# Altium integrated library Molex FFC - FPC Connectors (SMT).IntLib: 638 symbols (part 18 of 20)
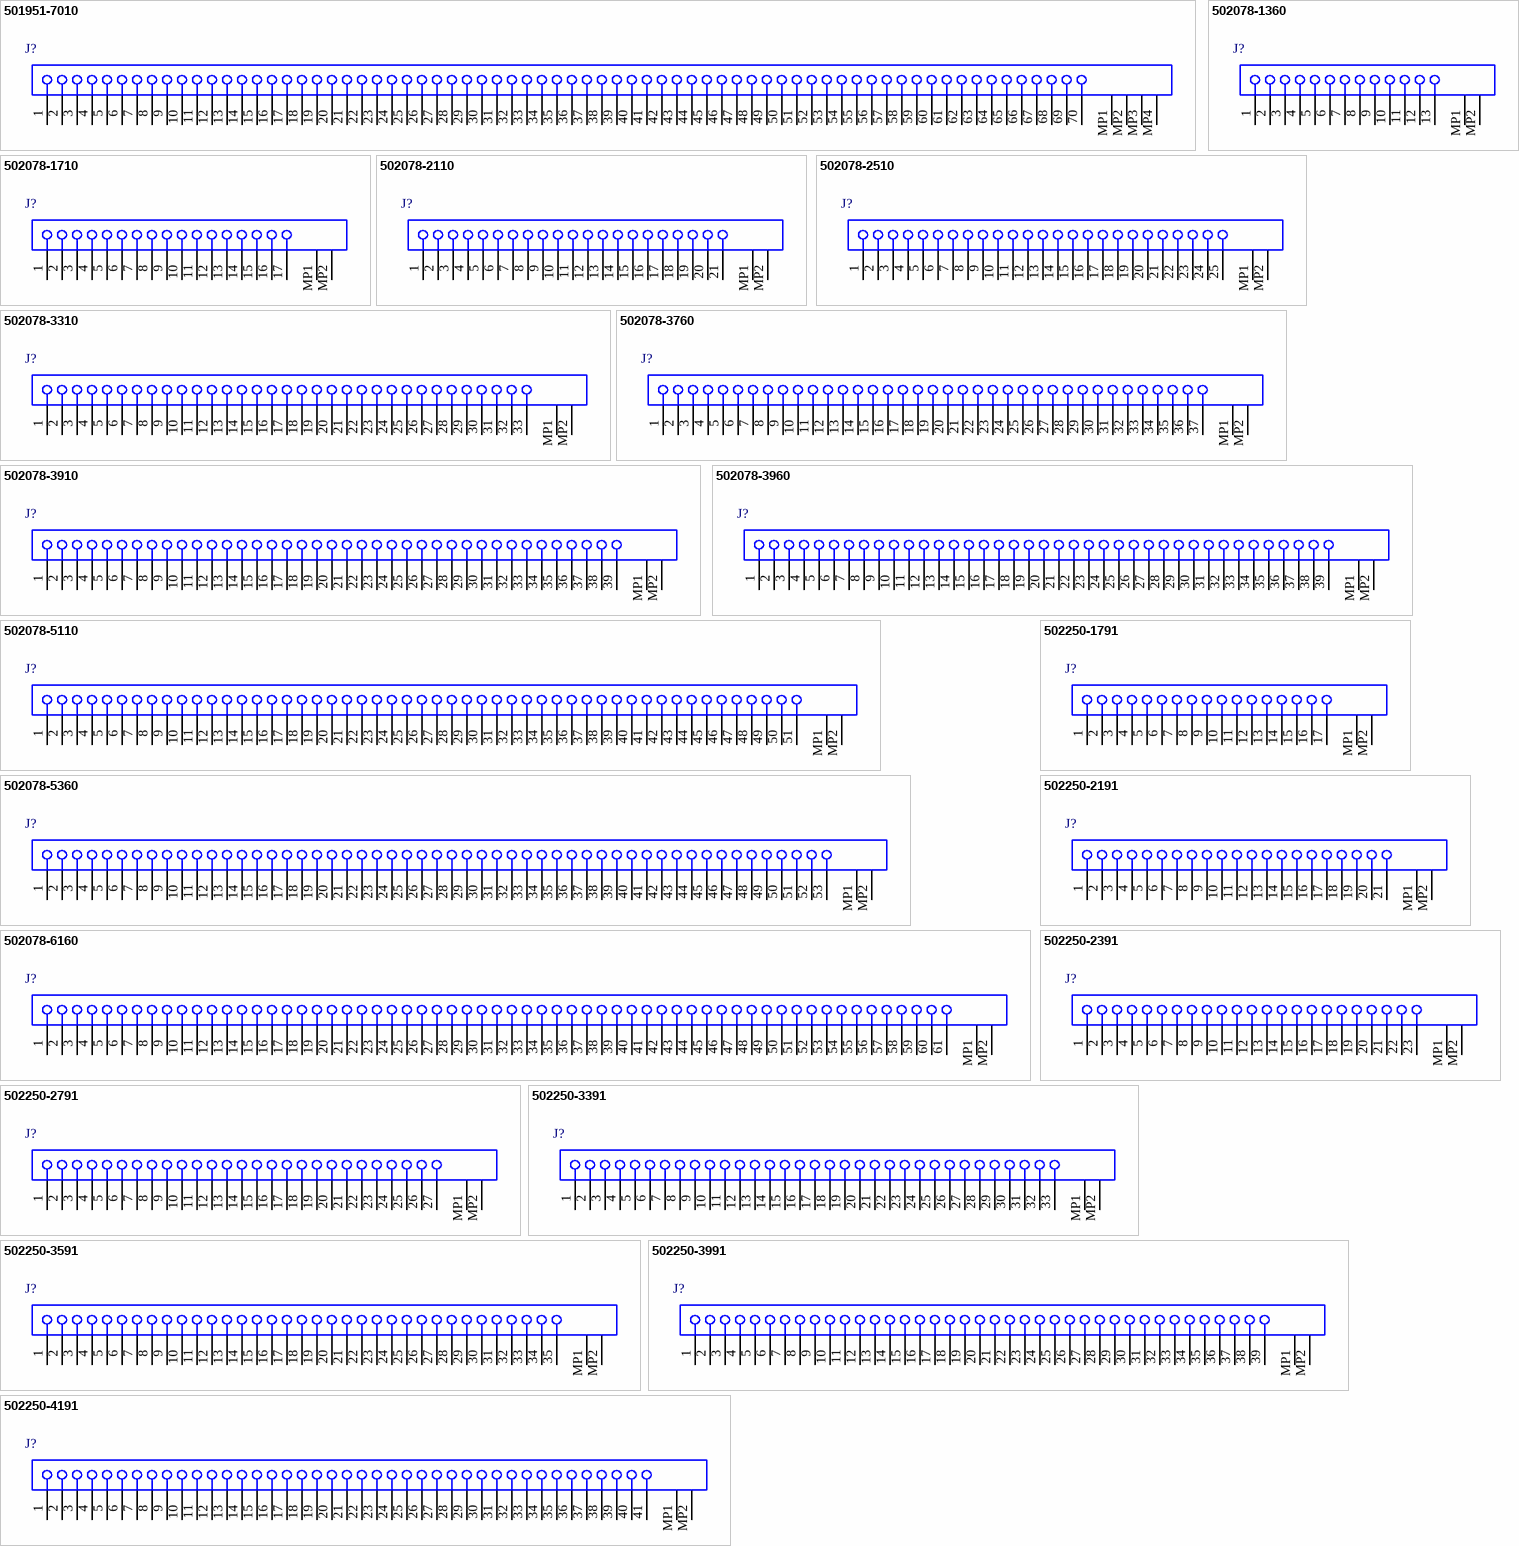
[diagram p38: symbols 501951-7010 to 502250-4191]

## 502078-3960
designator J?
0.25 mm Pitch Easy-On(TM) Type FPC Connector, 1.0 mm Mated Height, Right Angle, SMT, Bottom Contact, 39 Circuits, -20 to 85 degC, ELV and RoHS Compliant, Tape and Reel; Manufacturer: Molex; PartNumber: 502078-3960; Circuits (Loaded): 39; Current (Max per Contact): 0.2A; Durability (mating cycles max): 10; Entry Angle: 90degrees Angle; Mated Height: 1.00mm; Material - Metal: Copper Alloy; Material - Plating Mating: Gold; PCB Locator: No; PCB Retention: Yes; Pitch - Mating Interface: 0.25mm; Voltage (Max): 50V; PackageVersion: Rev. D, 06/2013; PackageReference: 502078-3960; PackageDescription: 39-Lead FPC Connector, Pitch 0.25 mm; Contact Position: Bottom; Material - Plating Termination: Gold; Number of Rows: 1; Orientation: Right Angle; Packing: Tape and Reel; Polarized to PCB: Yes; RoHS: TRUE; Stackable: No; Mounting Technology: Surface Mount; ComponentLink1Description: Manufacturer URL; ComponentLink1URL: http://www.molex.com/molex/index.jsp; ComponentLink2Description: Datasheet; ComponentLink2URL: http://www.molex.com/webdocs/datasheets/pdf/en-us/5020783960_FFC_FPC_CONNECTORS.pdf; ComponentLink3Description: Package Specification; ComponentLink3URL: http://www.molex.com/pdm_docs/sd/5020783960_sd.pdf
footprint MOLX-502078-3960 (FPC Connector, 39-Leads, Right Angle, Pitch 0.25 mm, Mated Height 1.0 mm, SMT)
pins: 1, 2, 3, 4, 5, 6, 7, 8, 9, 10, 11, 12, 13, 14, 15, 16, 17, 18, 19, 20, 21, 22, 23, 24, 25, 26, 27, 28, 29, 30, 31, 32, 33, 34, 35, 36, 37, 38, 39, MP1, MP2

## 502078-5110
designator J?
0.25 mm Pitch Easy-On(TM) Type FPC Connector, 1.0 mm Mated Height, Right Angle, SMT, Bottom Contact, 51 Circuits, -20 to 85 degC, ELV and RoHS Compliant, Tape and Reel; Manufacturer: Molex; PartNumber: 502078-5110; Circuits (Loaded): 51; Current (Max per Contact): 0.2A; Durability (mating cycles max): 10; Entry Angle: 90degrees Angle; Mated Height: 1.00mm; Material - Metal: Copper Alloy; Material - Plating Mating: Gold; PCB Locator: No; PCB Retention: Yes; Pitch - Mating Interface: 0.25mm; Voltage (Max): 50V; PackageVersion: Rev. B, 09/2011; PackageReference: 502078-5110; PackageDescription: 51-Lead FPC Connector, Pitch 0.25 mm; Contact Position: Bottom; Material - Plating Termination: Gold; Number of Rows: 1; Orientation: Right Angle; Packing: Tape and Reel; Polarized to PCB: Yes; RoHS: TRUE; Stackable: No; Mounting Technology: Surface Mount; ComponentLink1Description: Manufacturer URL; ComponentLink1URL: http://www.molex.com/molex/index.jsp; ComponentLink2Description: Datasheet; ComponentLink2URL: http://www.molex.com/webdocs/datasheets/pdf/en-us/5020785110_FFC_FPC_CONNECTORS.pdf; ComponentLink3Description: Package Specification; ComponentLink3URL: http://www.molex.com/pdm_docs/sd/5020785110_sd.pdf
footprint MOLX-502078-5110 (FPC Connector, 51-Leads, Right Angle, Pitch 0.25 mm, Mated Height 1.0 mm, SMT)
pins: 1, 2, 3, 4, 5, 6, 7, 8, 9, 10, 11, 12, 13, 14, 15, 16, 17, 18, 19, 20, 21, 22, 23, 24, 25, 26, 27, 28, 29, 30, 31, 32, 33, 34, 35, 36, 37, 38, 39, 40, 41, 42, 43, 44, 45, 46, 47, 48, 49, 50, 51, MP1, MP2

## 502078-5360
designator J?
0.25 mm Pitch Easy-On(TM) Type FPC Connector, 1.0 mm Mated Height, Right Angle, SMT, Bottom Contact, 53 Circuits, -20 to 85 degC, ELV and RoHS Compliant, Tape and Reel; Manufacturer: Molex; PartNumber: 502078-5360; Circuits (Loaded): 53; Current (Max per Contact): 0.2A; Durability (mating cycles max): 10; Entry Angle: 90degrees Angle; Mated Height: 1.00mm; Material - Metal: Copper Alloy; Material - Plating Mating: Gold; PCB Locator: No; PCB Retention: Yes; Pitch - Mating Interface: 0.25mm; Voltage (Max): 50V; PackageVersion: Rev. D, 06/2013; PackageReference: 502078-5360; PackageDescription: 53-Lead FPC Connector, Pitch 0.25 mm; Contact Position: Bottom; Material - Plating Termination: Gold; Number of Rows: 1; Orientation: Right Angle; Packing: Tape and Reel; Polarized to PCB: Yes; RoHS: TRUE; Stackable: No; Mounting Technology: Surface Mount; ComponentLink1Description: Manufacturer URL; ComponentLink1URL: http://www.molex.com/molex/index.jsp; ComponentLink2Description: Datasheet; ComponentLink2URL: http://www.molex.com/webdocs/datasheets/pdf/en-us/5020785360_FFC_FPC_CONNECTORS.pdf; ComponentLink3Description: Package Specification; ComponentLink3URL: http://www.molex.com/pdm_docs/sd/5020785360_sd.pdf
footprint MOLX-502078-5360 (FPC Connector, 53-Leads, Right Angle, Pitch 0.25 mm, Mated Height 1.0 mm, SMT)
pins: 1, 2, 3, 4, 5, 6, 7, 8, 9, 10, 11, 12, 13, 14, 15, 16, 17, 18, 19, 20, 21, 22, 23, 24, 25, 26, 27, 28, 29, 30, 31, 32, 33, 34, 35, 36, 37, 38, 39, 40, 41, 42, 43, 44, 45, 46, 47, 48, 49, 50, 51, 52, 53, MP1, MP2

## 502078-6160
designator J?
0.25 mm Pitch Easy-On(TM) Type FPC Connector, 1.0 mm Mated Height, Right Angle, SMT, Bottom Contact, 61 Circuits, -20 to 85 degC, ELV and RoHS Compliant, Tape and Reel; Manufacturer: Molex; PartNumber: 502078-6160; Circuits (Loaded): 61; Current (Max per Contact): 0.2A; Durability (mating cycles max): 10; Entry Angle: 90degrees Angle; Mated Height: 1.00mm; Material - Metal: Copper Alloy; Material - Plating Mating: Gold; PCB Locator: No; PCB Retention: Yes; Pitch - Mating Interface: 0.25mm; Voltage (Max): 50V; PackageVersion: Rev. D, 06/2013; PackageReference: 502078-6160; PackageDescription: 61-Lead FPC Connector, Pitch 0.25 mm; Contact Position: Bottom; Material - Plating Termination: Gold; Number of Rows: 1; Orientation: Right Angle; Packing: Tape and Reel; Polarized to PCB: Yes; RoHS: TRUE; Stackable: No; Mounting Technology: Surface Mount; ComponentLink1Description: Manufacturer URL; ComponentLink1URL: http://www.molex.com/molex/index.jsp; ComponentLink2Description: Datasheet; ComponentLink2URL: http://www.molex.com/webdocs/datasheets/pdf/en-us/5020786160_FFC_FPC_CONNECTORS.pdf; ComponentLink3Description: Package Specification; ComponentLink3URL: http://www.molex.com/pdm_docs/sd/5020786160_sd.pdf
footprint MOLX-502078-6160 (FPC Connector, 61-Leads, Right Angle, Pitch 0.25 mm, Mated Height 1.0 mm, SMT)
pins: 1, 2, 3, 4, 5, 6, 7, 8, 9, 10, 11, 12, 13, 14, 15, 16, 17, 18, 19, 20, 21, 22, 23, 24, 25, 26, 27, 28, 29, 30, 31, 32, 33, 34, 35, 36, 37, 38, 39, 40, 41, 42, 43, 44, 45, 46, 47, 48, 49, 50, 51, 52, 53, 54, 55, 56, 57, 58, 59, 60, 61, MP1, MP2

## 502250-1791
designator J?
0.3 mm Pitch Easy-On(TM) BackFlip(TM) Type FPC Connector, 0.9 mm Mated Height, Right Angle, SMT, Dual Contact, 17 Circuits, -25 to 85 degC, ELV and RoHS Compliant, Tape and Reel; Manufacturer: Molex; PartNumber: 502250-1791; Circuits (Loaded): 17; Current (Max per Contact): 0.2A; Durability (mating cycles max): 10; Entry Angle: 90degrees Angle; Mated Height: 0.90mm; Material - Metal: Copper-Nickel-Tin; Material - Plating Mating: Gold; PCB Locator: No; PCB Retention: Yes; Pitch - Mating Interface: 0.30mm; Voltage (Max): 50V AC (RMS)/DC; PackageVersion: Rev. D, 12/2008; PackageReference: 502250-1791; PackageDescription: 17-Lead FPC Connector, Pitch 0.3 mm; Contact Position: Dual; Material - Plating Termination: Gold; Number of Rows: 1; Orientation: Right Angle; Packing: Tape and Reel; Polarized to PCB: Yes; RoHS: TRUE; Stackable: No; Mounting Technology: Surface Mount; ComponentLink1Description: Manufacturer URL; ComponentLink1URL: http://www.molex.com/molex/index.jsp; ComponentLink2Description: Datasheet; ComponentLink2URL: http://www.molex.com/webdocs/datasheets/pdf/en-us/5022501791_FFC_FPC_CONNECTORS.pdf; ComponentLink3Description: Package Specification; ComponentLink3URL: http://www.molex.com/pdm_docs/sd/5022501791_sd.pdf
footprint MOLX-502250-1791 (FPC Connector, 17-Leads, Right Angle, Pitch 0.3 mm, Mated Height 0.9 mm, SMT)
pins: 1, 2, 3, 4, 5, 6, 7, 8, 9, 10, 11, 12, 13, 14, 15, 16, 17, MP1, MP2

## 502250-2191
designator J?
0.3 mm Pitch Easy-On(TM) BackFlip(TM) Type FPC Connector, 0.9 mm Mated Height, Right Angle, SMT, Dual Contact, 21 Circuits, -25 to 85 degC, ELV and RoHS Compliant, Tape and Reel; Manufacturer: Molex; PartNumber: 502250-2191; Circuits (Loaded): 21; Current (Max per Contact): 0.2A; Durability (mating cycles max): 10; Entry Angle: 90degrees Angle; Mated Height: 0.90mm; Material - Metal: Copper-Nickel-Tin; Material - Plating Mating: Gold; PCB Locator: No; PCB Retention: Yes; Pitch - Mating Interface: 0.30mm; Voltage (Max): 50V AC (RMS)/DC; PackageVersion: Rev. D, 12/2008; PackageReference: 502250-2191; PackageDescription: 21-Lead FPC Connector, Pitch 0.3 mm; Contact Position: Dual; Material - Plating Termination: Gold; Number of Rows: 1; Orientation: Right Angle; Packing: Tape and Reel; Polarized to PCB: Yes; RoHS: TRUE; Stackable: No; Mounting Technology: Surface Mount; ComponentLink1Description: Manufacturer URL; ComponentLink1URL: http://www.molex.com/molex/index.jsp; ComponentLink2Description: Datasheet; ComponentLink2URL: http://www.molex.com/webdocs/datasheets/pdf/en-us/5022502191_FFC_FPC_CONNECTORS.pdf; ComponentLink3Description: Package Specification; ComponentLink3URL: http://www.molex.com/pdm_docs/sd/5022502191_sd.pdf
footprint MOLX-502250-2191 (FPC Connector, 21-Leads, Right Angle, Pitch 0.3 mm, Mated Height 0.9 mm, SMT)
pins: 1, 2, 3, 4, 5, 6, 7, 8, 9, 10, 11, 12, 13, 14, 15, 16, 17, 18, 19, 20, 21, MP1, MP2

## 502250-2391
designator J?
0.3 mm Pitch Easy-On(TM) BackFlip(TM) Type FPC Connector, 0.9 mm Mated Height, Right Angle, SMT, Dual Contact, 23 Circuits, -25 to 85 degC, ELV and RoHS Compliant, Tape and Reel; Manufacturer: Molex; PartNumber: 502250-2391; Circuits (Loaded): 23; Current (Max per Contact): 0.2A; Durability (mating cycles max): 10; Entry Angle: 90degrees Angle; Mated Height: 0.90mm; Material - Metal: Copper-Nickel-Tin; Material - Plating Mating: Gold; PCB Locator: No; PCB Retention: Yes; Pitch - Mating Interface: 0.30mm; Voltage (Max): 50V AC (RMS)/DC; PackageVersion: Rev. D, 12/2008; PackageReference: 502250-2391; PackageDescription: 23-Lead FPC Connector, Pitch 0.3 mm; Contact Position: Dual; Material - Plating Termination: Gold; Number of Rows: 1; Orientation: Right Angle; Packing: Tape and Reel; Polarized to PCB: Yes; RoHS: TRUE; Stackable: No; Mounting Technology: Surface Mount; ComponentLink1Description: Manufacturer URL; ComponentLink1URL: http://www.molex.com/molex/index.jsp; ComponentLink2Description: Datasheet; ComponentLink2URL: http://www.molex.com/webdocs/datasheets/pdf/en-us/5022502391_FFC_FPC_CONNECTORS.pdf; ComponentLink3Description: Package Specification; ComponentLink3URL: http://www.molex.com/pdm_docs/sd/5022502391_sd.pdf
footprint MOLX-502250-2391 (FPC Connector, 23-Leads, Right Angle, Pitch 0.3 mm, Mated Height 0.9 mm, SMT)
pins: 1, 2, 3, 4, 5, 6, 7, 8, 9, 10, 11, 12, 13, 14, 15, 16, 17, 18, 19, 20, 21, 22, 23, MP1, MP2

## 502250-2791
designator J?
0.3 mm Pitch Easy-On(TM) BackFlip(TM) Type FPC Connector, 0.9 mm Mated Height, Right Angle, SMT, Dual Contact, 27 Circuits, -25 to 85 degC, ELV and RoHS Compliant, Tape and Reel; Manufacturer: Molex; PartNumber: 502250-2791; Circuits (Loaded): 27; Current (Max per Contact): 0.2A; Durability (mating cycles max): 10; Entry Angle: 90degrees Angle; Mated Height: 0.90mm; Material - Metal: Copper-Nickel-Tin; Material - Plating Mating: Gold; PCB Locator: No; PCB Retention: Yes; Pitch - Mating Interface: 0.30mm; Voltage (Max): 50V AC (RMS)/DC; PackageVersion: Rev. D, 12/2008; PackageReference: 502250-2791; PackageDescription: 27-Lead FPC Connector, Pitch 0.3 mm; Contact Position: Dual; Material - Plating Termination: Gold; Number of Rows: 1; Orientation: Right Angle; Packing: Tape and Reel; Polarized to PCB: Yes; RoHS: TRUE; Stackable: No; Mounting Technology: Surface Mount; ComponentLink1Description: Manufacturer URL; ComponentLink1URL: http://www.molex.com/molex/index.jsp; ComponentLink2Description: Datasheet; ComponentLink2URL: http://www.molex.com/webdocs/datasheets/pdf/en-us/5022502791_FFC_FPC_CONNECTORS.pdf; ComponentLink3Description: Package Specification; ComponentLink3URL: http://www.molex.com/pdm_docs/sd/5022502791_sd.pdf
footprint MOLX-502250-2791 (FPC Connector, 27-Leads, Right Angle, Pitch 0.3 mm, Mated Height 0.9 mm, SMT)
pins: 1, 2, 3, 4, 5, 6, 7, 8, 9, 10, 11, 12, 13, 14, 15, 16, 17, 18, 19, 20, 21, 22, 23, 24, 25, 26, 27, MP1, MP2

## 502250-3391
designator J?
0.3 mm Pitch Easy-On(TM) BackFlip(TM) Type FPC Connector, 0.9 mm Mated Height, Right Angle, SMT, Dual Contact, 33 Circuits, -25 to 85 degC, ELV and RoHS Compliant, Tape and Reel; Manufacturer: Molex; PartNumber: 502250-3391; Circuits (Loaded): 33; Current (Max per Contact): 0.2A; Durability (mating cycles max): 10; Entry Angle: 90degrees Angle; Mated Height: 0.90mm; Material - Metal: Copper-Nickel-Tin; Material - Plating Mating: Gold; PCB Locator: No; PCB Retention: Yes; Pitch - Mating Interface: 0.30mm; Voltage (Max): 50V AC (RMS)/DC; PackageVersion: Rev. D, 12/2008; PackageReference: 502250-3391; PackageDescription: 33-Lead FPC Connector, Pitch 0.3 mm; Contact Position: Dual; Material - Plating Termination: Gold; Number of Rows: 1; Orientation: Right Angle; Packing: Tape and Reel; Polarized to PCB: Yes; RoHS: TRUE; Stackable: No; Mounting Technology: Surface Mount; ComponentLink1Description: Manufacturer URL; ComponentLink1URL: http://www.molex.com/molex/index.jsp; ComponentLink2Description: Datasheet; ComponentLink2URL: http://www.molex.com/webdocs/datasheets/pdf/en-us/5022503391_FFC_FPC_CONNECTORS.pdf; ComponentLink3Description: Package Specification; ComponentLink3URL: http://www.molex.com/pdm_docs/sd/5022503391_sd.pdf
footprint MOLX-502250-3391 (FPC Connector, 33-Leads, Right Angle, Pitch 0.3 mm, Mated Height 0.9 mm, SMT)
pins: 1, 2, 3, 4, 5, 6, 7, 8, 9, 10, 11, 12, 13, 14, 15, 16, 17, 18, 19, 20, 21, 22, 23, 24, 25, 26, 27, 28, 29, 30, 31, 32, 33, MP1, MP2

## 502250-3591
designator J?
0.3 mm Pitch Easy-On(TM) BackFlip(TM) Type FPC Connector, 0.9 mm Mated Height, Right Angle, SMT, Dual Contact, 35 Circuits, -25 to 85 degC, ELV and RoHS Compliant, Tape and Reel; Manufacturer: Molex; PartNumber: 502250-3591; Circuits (Loaded): 35; Current (Max per Contact): 0.2A; Durability (mating cycles max): 10; Entry Angle: 90degrees Angle; Mated Height: 0.90mm; Material - Metal: Copper-Nickel-Tin; Material - Plating Mating: Gold; PCB Locator: No; PCB Retention: Yes; Pitch - Mating Interface: 0.30mm; Voltage (Max): 50V AC (RMS)/DC; PackageVersion: Rev. D, 12/2008; PackageReference: 502250-3591; PackageDescription: 35-Lead FPC Connector, Pitch 0.3 mm; Contact Position: Dual; Material - Plating Termination: Gold; Number of Rows: 1; Orientation: Right Angle; Packing: Tape and Reel; Polarized to PCB: Yes; RoHS: TRUE; Stackable: No; Mounting Technology: Surface Mount; ComponentLink1Description: Manufacturer URL; ComponentLink1URL: http://www.molex.com/molex/index.jsp; ComponentLink2Description: Datasheet; ComponentLink2URL: http://www.molex.com/webdocs/datasheets/pdf/en-us/5022503591_FFC_FPC_CONNECTORS.pdf; ComponentLink3Description: Package Specification; ComponentLink3URL: http://www.molex.com/pdm_docs/sd/5022503591_sd.pdf
footprint MOLX-502250-3591 (FPC Connector, 35-Leads, Right Angle, Pitch 0.3 mm, Mated Height 0.9 mm, SMT)
pins: 1, 2, 3, 4, 5, 6, 7, 8, 9, 10, 11, 12, 13, 14, 15, 16, 17, 18, 19, 20, 21, 22, 23, 24, 25, 26, 27, 28, 29, 30, 31, 32, 33, 34, 35, MP1, MP2

## 502250-3991
designator J?
0.3 mm Pitch Easy-On(TM) BackFlip(TM) Type FPC Connector, 0.9 mm Mated Height, Right Angle, SMT, Dual Contact, 39 Circuits, -25 to 85 degC, ELV and RoHS Compliant, Tape and Reel; Manufacturer: Molex; PartNumber: 502250-3991; Circuits (Loaded): 39; Current (Max per Contact): 0.2A; Durability (mating cycles max): 10; Entry Angle: 90degrees Angle; Mated Height: 0.90mm; Material - Metal: Copper-Nickel-Tin; Material - Plating Mating: Gold; PCB Locator: No; PCB Retention: Yes; Pitch - Mating Interface: 0.30mm; Voltage (Max): 50V AC (RMS)/DC; PackageVersion: Rev. D, 12/2008; PackageReference: 502250-3991; PackageDescription: 39-Lead FPC Connector, Pitch 0.3 mm; Contact Position: Dual; Material - Plating Termination: Gold; Number of Rows: 1; Orientation: Right Angle; Packing: Tape and Reel; Polarized to PCB: Yes; RoHS: TRUE; Stackable: No; Mounting Technology: Surface Mount; ComponentLink1Description: Manufacturer URL; ComponentLink1URL: http://www.molex.com/molex/index.jsp; ComponentLink2Description: Datasheet; ComponentLink2URL: http://www.molex.com/webdocs/datasheets/pdf/en-us/5022503991_FFC_FPC_CONNECTORS.pdf; ComponentLink3Description: Package Specification; ComponentLink3URL: http://www.molex.com/pdm_docs/sd/5022503991_sd.pdf
footprint MOLX-502250-3991 (FPC Connector, 39-Leads, Right Angle, Pitch 0.3 mm, Mated Height 0.9 mm, SMT)
pins: 1, 2, 3, 4, 5, 6, 7, 8, 9, 10, 11, 12, 13, 14, 15, 16, 17, 18, 19, 20, 21, 22, 23, 24, 25, 26, 27, 28, 29, 30, 31, 32, 33, 34, 35, 36, 37, 38, 39, MP1, MP2

## 502250-4191
designator J?
0.3 mm Pitch Easy-On(TM) BackFlip(TM) Type FPC Connector, 0.9 mm Mated Height, Right Angle, SMT, Dual Contact, 41 Circuits, -25 to 85 degC, ELV and RoHS Compliant, Tape and Reel; Manufacturer: Molex; PartNumber: 502250-4191; Circuits (Loaded): 41; Current (Max per Contact): 0.2A; Durability (mating cycles max): 10; Entry Angle: 90degrees Angle; Mated Height: 0.90mm; Material - Metal: Copper-Nickel-Tin; Material - Plating Mating: Gold; PCB Locator: No; PCB Retention: Yes; Pitch - Mating Interface: 0.30mm; Voltage (Max): 50V AC (RMS)/DC; PackageVersion: Rev. D, 12/2008; PackageReference: 502250-4191; PackageDescription: 41-Lead FPC Connector, Pitch 0.3 mm; Contact Position: Dual; Material - Plating Termination: Gold; Number of Rows: 1; Orientation: Right Angle; Packing: Tape and Reel; Polarized to PCB: Yes; RoHS: TRUE; Stackable: No; Mounting Technology: Surface Mount; ComponentLink1Description: Manufacturer URL; ComponentLink1URL: http://www.molex.com/molex/index.jsp; ComponentLink2Description: Datasheet; ComponentLink2URL: http://www.molex.com/webdocs/datasheets/pdf/en-us/5022504191_FFC_FPC_CONNECTORS.pdf; ComponentLink3Description: Package Specification; ComponentLink3URL: http://www.molex.com/pdm_docs/sd/5022504191_sd.pdf
footprint MOLX-502250-4191 (FPC Connector, 41-Leads, Right Angle, Pitch 0.3 mm, Mated Height 0.9 mm, SMT)
pins: 1, 2, 3, 4, 5, 6, 7, 8, 9, 10, 11, 12, 13, 14, 15, 16, 17, 18, 19, 20, 21, 22, 23, 24, 25, 26, 27, 28, 29, 30, 31, 32, 33, 34, 35, 36, 37, 38, 39, 40, 41, MP1, MP2

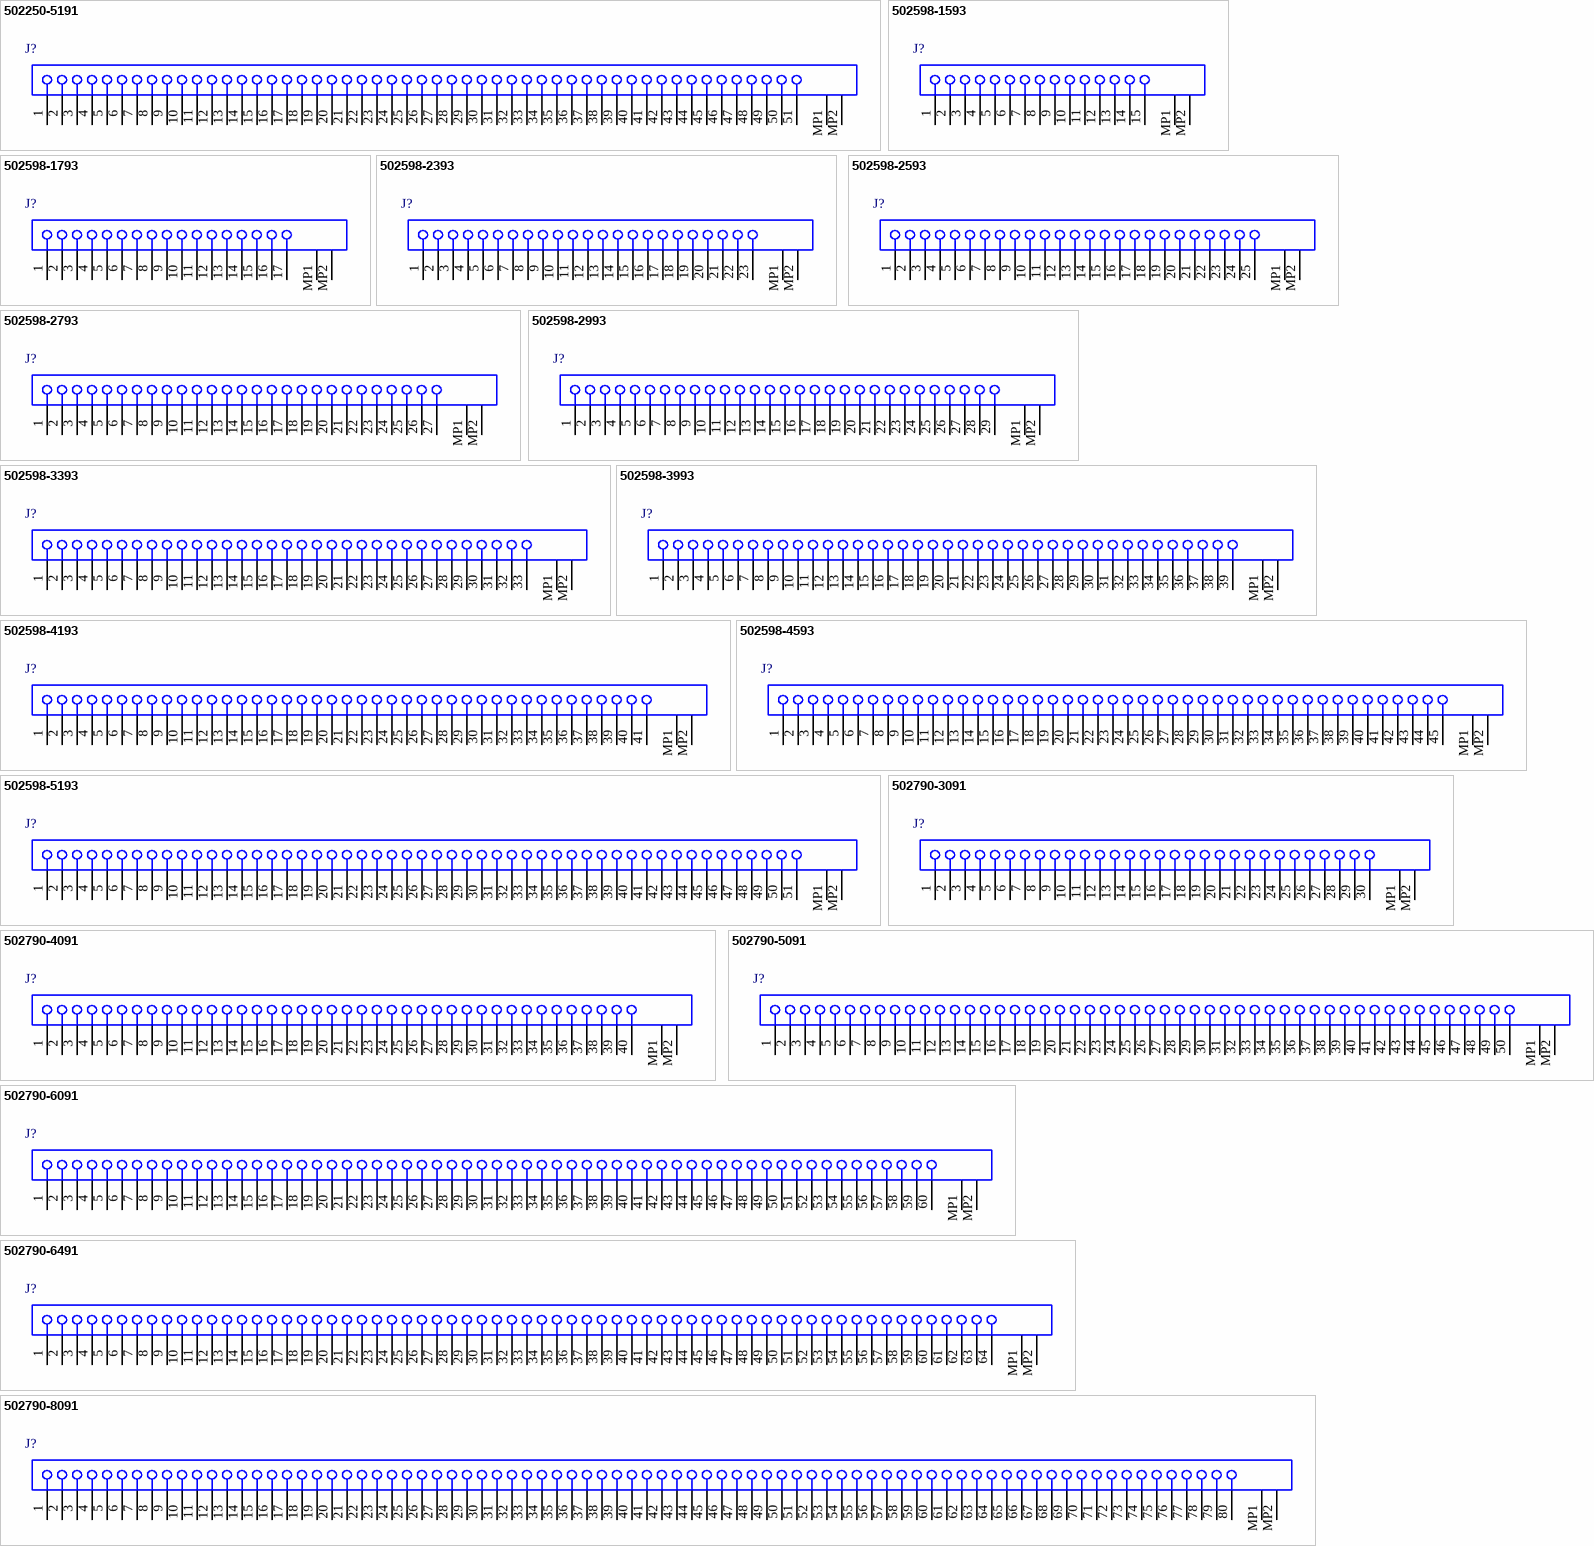
[diagram p19: symbols 502250-5191 to 502790-8091]

## 502250-5191
designator J?
0.3 mm Pitch Easy-On(TM) BackFlip(TM) Type FPC Connector, 0.9 mm Mated Height, Right Angle, SMT, Dual Contact, 51 Circuits, -25 to 85 degC, ELV and RoHS Compliant, Tape and Reel; Manufacturer: Molex; PartNumber: 502250-5191; Circuits (Loaded): 51; Current (Max per Contact): 0.2A; Durability (mating cycles max): 10; Entry Angle: 90degrees Angle; Mated Height: 0.90mm; Material - Metal: Copper-Nickel-Tin; Material - Plating Mating: Gold; PCB Locator: No; PCB Retention: Yes; Pitch - Mating Interface: 0.30mm; Voltage (Max): 50V AC (RMS)/DC; PackageVersion: Rev. D, 12/2008; PackageReference: 502250-5191; PackageDescription: 51-Lead FPC Connector, Pitch 0.3 mm; Contact Position: Dual; Material - Plating Termination: Gold; Number of Rows: 1; Orientation: Right Angle; Packing: Tape and Reel; Polarized to PCB: Yes; RoHS: TRUE; Stackable: No; Mounting Technology: Surface Mount; ComponentLink1Description: Manufacturer URL; ComponentLink1URL: http://www.molex.com/molex/index.jsp; ComponentLink2Description: Datasheet; ComponentLink2URL: http://www.molex.com/webdocs/datasheets/pdf/en-us/5022505191_FFC_FPC_CONNECTORS.pdf; ComponentLink3Description: Package Specification; ComponentLink3URL: http://www.molex.com/pdm_docs/sd/5022505191_sd.pdf
footprint MOLX-502250-5191 (FPC Connector, 51-Leads, Right Angle, Pitch 0.3 mm, Mated Height 0.9 mm, SMT)
pins: 1, 2, 3, 4, 5, 6, 7, 8, 9, 10, 11, 12, 13, 14, 15, 16, 17, 18, 19, 20, 21, 22, 23, 24, 25, 26, 27, 28, 29, 30, 31, 32, 33, 34, 35, 36, 37, 38, 39, 40, 41, 42, 43, 44, 45, 46, 47, 48, 49, 50, 51, MP1, MP2

## 502598-1593
designator J?
0.3 mm Pitch Easy-On(TM) BackFlip(TM) Type FPC Connector, 1.15 mm Mated Height, Right Angle, SMT, Dual Contact, 15 Circuits, -40 to 85 degC, ELV and RoHS Compliant, Tape and Reel; Manufacturer: Molex; PartNumber: 502598-1593; Circuits (Loaded): 15; Current (Max per Contact): 0.2A; Durability (mating cycles max): 10; Entry Angle: 90degrees Angle; Mated Height: 1.15mm; Material - Metal: Copper Alloy, Phosphor Bronze; Material - Plating Mating: Gold; Material - Plating Termination: Gold, Tin; PCB Locator: No; PCB Retention: Yes; Pitch - Mating Interface: 0.30mm; Voltage (Max): 50V AC (RMS)/DC; PackageVersion: Rev. B, 08/2013; PackageReference: 502598-1593; PackageDescription: 15-Lead FPC Connector, Pitch 0.3 mm; Contact Position: Dual; Number of Rows: 1; Orientation: Right Angle; Packing: Tape and Reel; Polarized to PCB: Yes; RoHS: TRUE; Stackable: No; Mounting Technology: Surface Mount; ComponentLink1Description: Manufacturer URL; ComponentLink1URL: http://www.molex.com/molex/index.jsp; ComponentLink2Description: Datasheet; ComponentLink2URL: http://www.molex.com/webdocs/datasheets/pdf/en-us/5025981593_FFC_FPC_CONNECTORS.pdf; ComponentLink3Description: Package Specification; ComponentLink3URL: http://www.molex.com/pdm_docs/sd/5025981593_sd.pdf
footprint MOLX-502598-1593 (FPC Connector, 15-Leads, Right Angle, Pitch 0.3 mm, Mated Height 1.15 mm, SMT)
pins: 1, 2, 3, 4, 5, 6, 7, 8, 9, 10, 11, 12, 13, 14, 15, MP1, MP2

## 502598-1793
designator J?
0.3 mm Pitch Easy-On(TM) BackFlip(TM) Type FPC Connector, 1.15 mm Mated Height, Right Angle, SMT, Dual Contact, 17 Circuits, -40 to 85 degC, ELV and RoHS Compliant, Tape and Reel; Manufacturer: Molex; PartNumber: 502598-1793; Circuits (Loaded): 17; Current (Max per Contact): 0.2A; Durability (mating cycles max): 10; Entry Angle: 90degrees Angle; Mated Height: 1.15mm; Material - Metal: Copper Alloy, Phosphor Bronze; Material - Plating Mating: Gold; Material - Plating Termination: Gold, Tin; PCB Locator: No; PCB Retention: Yes; Pitch - Mating Interface: 0.30mm; Voltage (Max): 50V AC (RMS)/DC; PackageVersion: Rev. B, 08/2013; PackageReference: 502598-1793; PackageDescription: 17-Lead FPC Connector, Pitch 0.3 mm; Contact Position: Dual; Number of Rows: 1; Orientation: Right Angle; Packing: Tape and Reel; Polarized to PCB: Yes; RoHS: TRUE; Stackable: No; Mounting Technology: Surface Mount; ComponentLink1Description: Manufacturer URL; ComponentLink1URL: http://www.molex.com/molex/index.jsp; ComponentLink2Description: Datasheet; ComponentLink2URL: http://www.molex.com/webdocs/datasheets/pdf/en-us/5025981793_FFC_FPC_CONNECTORS.pdf; ComponentLink3Description: Package Specification; ComponentLink3URL: http://www.molex.com/pdm_docs/sd/5025981793_sd.pdf
footprint MOLX-502598-1793 (FPC Connector, 17-Leads, Right Angle, Pitch 0.3 mm, Mated Height 1.15 mm, SMT)
pins: 1, 2, 3, 4, 5, 6, 7, 8, 9, 10, 11, 12, 13, 14, 15, 16, 17, MP1, MP2

## 502598-2393
designator J?
0.3 mm Pitch Easy-On(TM) BackFlip(TM) Type FPC Connector, 1.15 mm Mated Height, Right Angle, SMT, Dual Contact, 23 Circuits, -40 to 85 degC, ELV and RoHS Compliant, Tape and Reel; Manufacturer: Molex; PartNumber: 502598-2393; Circuits (Loaded): 23; Current (Max per Contact): 0.2A; Durability (mating cycles max): 10; Entry Angle: 90degrees Angle; Mated Height: 1.15mm; Material - Metal: Copper Alloy, Phosphor Bronze; Material - Plating Mating: Gold; Material - Plating Termination: Gold, Tin; PCB Locator: No; PCB Retention: Yes; Pitch - Mating Interface: 0.30mm; Voltage (Max): 50V AC (RMS)/DC; PackageVersion: Rev. B, 08/2013; PackageReference: 502598-2393; PackageDescription: 23-Lead FPC Connector, Pitch 0.3 mm; Contact Position: Dual; Number of Rows: 1; Orientation: Right Angle; Packing: Tape and Reel; Polarized to PCB: Yes; RoHS: TRUE; Stackable: No; Mounting Technology: Surface Mount; ComponentLink1Description: Manufacturer URL; ComponentLink1URL: http://www.molex.com/molex/index.jsp; ComponentLink2Description: Datasheet; ComponentLink2URL: http://www.molex.com/webdocs/datasheets/pdf/en-us/5025982393_FFC_FPC_CONNECTORS.pdf; ComponentLink3Description: Package Specification; ComponentLink3URL: http://www.molex.com/pdm_docs/sd/5025982393_sd.pdf
footprint MOLX-502598-2393 (FPC Connector, 23-Leads, Right Angle, Pitch 0.3 mm, Mated Height 1.15 mm, SMT)
pins: 1, 2, 3, 4, 5, 6, 7, 8, 9, 10, 11, 12, 13, 14, 15, 16, 17, 18, 19, 20, 21, 22, 23, MP1, MP2

## 502598-2593
designator J?
0.3 mm Pitch Easy-On(TM) BackFlip(TM) Type FPC Connector, 1.15 mm Mated Height, Right Angle, SMT, Dual Contact, 25 Circuits, -40 to 85 degC, ELV and RoHS Compliant, Tape and Reel; Manufacturer: Molex; PartNumber: 502598-2593; Circuits (Loaded): 25; Current (Max per Contact): 0.2A; Durability (mating cycles max): 10; Entry Angle: 90degrees Angle; Mated Height: 1.15mm; Material - Metal: Copper Alloy, Phosphor Bronze; Material - Plating Mating: Gold; Material - Plating Termination: Gold, Tin; PCB Locator: No; PCB Retention: Yes; Pitch - Mating Interface: 0.30mm; Voltage (Max): 50V AC (RMS)/DC; PackageVersion: Rev. B, 08/2013; PackageReference: 502598-2593; PackageDescription: 25-Lead FPC Connector, Pitch 0.3 mm; Contact Position: Dual; Number of Rows: 1; Orientation: Right Angle; Packing: Tape and Reel; Polarized to PCB: Yes; RoHS: TRUE; Stackable: No; Mounting Technology: Surface Mount; ComponentLink1Description: Manufacturer URL; ComponentLink1URL: http://www.molex.com/molex/index.jsp; ComponentLink2Description: Datasheet; ComponentLink2URL: http://www.molex.com/webdocs/datasheets/pdf/en-us/5025982593_FFC_FPC_CONNECTORS.pdf; ComponentLink3Description: Package Specification; ComponentLink3URL: http://www.molex.com/pdm_docs/sd/5025982593_sd.pdf
footprint MOLX-502598-2593 (FPC Connector, 25-Leads, Right Angle, Pitch 0.3 mm, Mated Height 1.15 mm, SMT)
pins: 1, 2, 3, 4, 5, 6, 7, 8, 9, 10, 11, 12, 13, 14, 15, 16, 17, 18, 19, 20, 21, 22, 23, 24, 25, MP1, MP2

## 502598-2793
designator J?
0.3 mm Pitch Easy-On(TM) BackFlip(TM) Type FPC Connector, 1.15 mm Mated Height, Right Angle, SMT, Dual Contact, 27 Circuits, -40 to 85 degC, ELV and RoHS Compliant, Tape and Reel; Manufacturer: Molex; PartNumber: 502598-2793; Circuits (Loaded): 27; Current (Max per Contact): 0.2A; Durability (mating cycles max): 10; Entry Angle: 90degrees Angle; Mated Height: 1.15mm; Material - Metal: Copper Alloy, Phosphor Bronze; Material - Plating Mating: Gold; Material - Plating Termination: Gold, Tin; PCB Locator: No; PCB Retention: Yes; Pitch - Mating Interface: 0.30mm; Voltage (Max): 50V AC (RMS)/DC; PackageVersion: Rev. B, 08/2013; PackageReference: 502598-2793; PackageDescription: 27-Lead FPC Connector, Pitch 0.3 mm; Contact Position: Dual; Number of Rows: 1; Orientation: Right Angle; Packing: Tape and Reel; Polarized to PCB: Yes; RoHS: TRUE; Stackable: No; Mounting Technology: Surface Mount; ComponentLink1Description: Manufacturer URL; ComponentLink1URL: http://www.molex.com/molex/index.jsp; ComponentLink2Description: Datasheet; ComponentLink2URL: http://www.molex.com/webdocs/datasheets/pdf/en-us/5025982793_FFC_FPC_CONNECTORS.pdf; ComponentLink3Description: Package Specification; ComponentLink3URL: http://www.molex.com/pdm_docs/sd/5025982793_sd.pdf
footprint MOLX-502598-2793 (FPC Connector, 27-Leads, Right Angle, Pitch 0.3 mm, Mated Height 1.15 mm, SMT)
pins: 1, 2, 3, 4, 5, 6, 7, 8, 9, 10, 11, 12, 13, 14, 15, 16, 17, 18, 19, 20, 21, 22, 23, 24, 25, 26, 27, MP1, MP2

## 502598-2993
designator J?
0.3 mm Pitch Easy-On(TM) BackFlip(TM) Type FPC Connector, 1.15 mm Mated Height, Right Angle, SMT, Dual Contact, 29 Circuits, -40 to 85 degC, ELV and RoHS Compliant, Tape and Reel; Manufacturer: Molex; PartNumber: 502598-2993; Circuits (Loaded): 29; Current (Max per Contact): 0.2A; Durability (mating cycles max): 10; Entry Angle: 90degrees Angle; Mated Height: 1.15mm; Material - Metal: Copper Alloy, Phosphor Bronze; Material - Plating Mating: Gold; Material - Plating Termination: Gold, Tin; PCB Locator: No; PCB Retention: Yes; Pitch - Mating Interface: 0.30mm; Voltage (Max): 50V AC (RMS)/DC; PackageVersion: Rev. B, 08/2013; PackageReference: 502598-2993; PackageDescription: 29-Lead FPC Connector, Pitch 0.3 mm; Contact Position: Dual; Number of Rows: 1; Orientation: Right Angle; Packing: Tape and Reel; Polarized to PCB: Yes; RoHS: TRUE; Stackable: No; Mounting Technology: Surface Mount; ComponentLink1Description: Manufacturer URL; ComponentLink1URL: http://www.molex.com/molex/index.jsp; ComponentLink2Description: Datasheet; ComponentLink2URL: http://www.molex.com/webdocs/datasheets/pdf/en-us/5025982993_FFC_FPC_CONNECTORS.pdf; ComponentLink3Description: Package Specification; ComponentLink3URL: http://www.molex.com/pdm_docs/sd/5025982993_sd.pdf
footprint MOLX-502598-2993 (FPC Connector, 29-Leads, Right Angle, Pitch 0.3 mm, Mated Height 1.15 mm, SMT)
pins: 1, 2, 3, 4, 5, 6, 7, 8, 9, 10, 11, 12, 13, 14, 15, 16, 17, 18, 19, 20, 21, 22, 23, 24, 25, 26, 27, 28, 29, MP1, MP2

## 502598-3393
designator J?
0.3 mm Pitch Easy-On(TM) BackFlip(TM) Type FPC Connector, 1.15 mm Mated Height, Right Angle, SMT, Dual Contact, 33 Circuits, -40 to 85 degC, ELV and RoHS Compliant, Tape and Reel; Manufacturer: Molex; PartNumber: 502598-3393; Circuits (Loaded): 33; Current (Max per Contact): 0.2A; Durability (mating cycles max): 10; Entry Angle: 90degrees Angle; Mated Height: 1.15mm; Material - Metal: Copper Alloy, Phosphor Bronze; Material - Plating Mating: Gold; Material - Plating Termination: Gold, Tin; PCB Locator: No; PCB Retention: Yes; Pitch - Mating Interface: 0.30mm; Voltage (Max): 50V AC (RMS)/DC; PackageVersion: Rev. B, 08/2013; PackageReference: 502598-3393; PackageDescription: 33-Lead FPC Connector, Pitch 0.3 mm; Contact Position: Dual; Number of Rows: 1; Orientation: Right Angle; Packing: Tape and Reel; Polarized to PCB: Yes; RoHS: TRUE; Stackable: No; Mounting Technology: Surface Mount; ComponentLink1Description: Manufacturer URL; ComponentLink1URL: http://www.molex.com/molex/index.jsp; ComponentLink2Description: Datasheet; ComponentLink2URL: http://www.molex.com/webdocs/datasheets/pdf/en-us/5025983393_FFC_FPC_CONNECTORS.pdf; ComponentLink3Description: Package Specification; ComponentLink3URL: http://www.molex.com/pdm_docs/sd/5025983393_sd.pdf
footprint MOLX-502598-3393 (FPC Connector, 33-Leads, Right Angle, Pitch 0.3 mm, Mated Height 1.15 mm, SMT)
pins: 1, 2, 3, 4, 5, 6, 7, 8, 9, 10, 11, 12, 13, 14, 15, 16, 17, 18, 19, 20, 21, 22, 23, 24, 25, 26, 27, 28, 29, 30, 31, 32, 33, MP1, MP2

## 502598-3993
designator J?
0.3 mm Pitch Easy-On(TM) BackFlip(TM) Type FPC Connector, 1.15 mm Mated Height, Right Angle, SMT, Dual Contact, 39 Circuits, -40 to 85 degC, ELV and RoHS Compliant, Tape and Reel; Manufacturer: Molex; PartNumber: 502598-3993; Circuits (Loaded): 39; Current (Max per Contact): 0.2A; Durability (mating cycles max): 10; Entry Angle: 90degrees Angle; Mated Height: 1.15mm; Material - Metal: Copper Alloy, Phosphor Bronze; Material - Plating Mating: Gold; Material - Plating Termination: Gold, Tin; PCB Locator: No; PCB Retention: Yes; Pitch - Mating Interface: 0.30mm; Voltage (Max): 50V AC (RMS)/DC; PackageVersion: Rev. B, 08/2013; PackageReference: 502598-3993; PackageDescription: 39-Lead FPC Connector, Pitch 0.3 mm; Contact Position: Dual; Number of Rows: 1; Orientation: Right Angle; Packing: Tape and Reel; Polarized to PCB: Yes; RoHS: TRUE; Stackable: No; Mounting Technology: Surface Mount; ComponentLink1Description: Manufacturer URL; ComponentLink1URL: http://www.molex.com/molex/index.jsp; ComponentLink2Description: Datasheet; ComponentLink2URL: http://www.molex.com/webdocs/datasheets/pdf/en-us/5025983993_FFC_FPC_CONNECTORS.pdf; ComponentLink3Description: Package Specification; ComponentLink3URL: http://www.molex.com/pdm_docs/sd/5025983993_sd.pdf
footprint MOLX-502598-3993 (FPC Connector, 39-Leads, Right Angle, Pitch 0.3 mm, Mated Height 1.15 mm, SMT)
pins: 1, 2, 3, 4, 5, 6, 7, 8, 9, 10, 11, 12, 13, 14, 15, 16, 17, 18, 19, 20, 21, 22, 23, 24, 25, 26, 27, 28, 29, 30, 31, 32, 33, 34, 35, 36, 37, 38, 39, MP1, MP2

## 502598-4193
designator J?
0.3 mm Pitch Easy-On(TM) BackFlip(TM) Type FPC Connector, 1.15 mm Mated Height, Right Angle, SMT, Dual Contact, 41 Circuits, -40 to 85 degC, ELV and RoHS Compliant, Tape and Reel; Manufacturer: Molex; PartNumber: 502598-4193; Circuits (Loaded): 41; Current (Max per Contact): 0.2A; Durability (mating cycles max): 10; Entry Angle: 90degrees Angle; Mated Height: 1.15mm; Material - Metal: Copper Alloy, Phosphor Bronze; Material - Plating Mating: Gold; Material - Plating Termination: Gold, Tin; PCB Locator: No; PCB Retention: Yes; Pitch - Mating Interface: 0.30mm; Voltage (Max): 50V AC (RMS)/DC; PackageVersion: Rev. B, 08/2013; PackageReference: 502598-4193; PackageDescription: 41-Lead FPC Connector, Pitch 0.3 mm; Contact Position: Dual; Number of Rows: 1; Orientation: Right Angle; Packing: Tape and Reel; Polarized to PCB: Yes; RoHS: TRUE; Stackable: No; Mounting Technology: Surface Mount; ComponentLink1Description: Manufacturer URL; ComponentLink1URL: http://www.molex.com/molex/index.jsp; ComponentLink2Description: Datasheet; ComponentLink2URL: http://www.molex.com/webdocs/datasheets/pdf/en-us/5025984193_FFC_FPC_CONNECTORS.pdf; ComponentLink3Description: Package Specification; ComponentLink3URL: http://www.molex.com/pdm_docs/sd/5025984193_sd.pdf
footprint MOLX-502598-4193 (FPC Connector, 41-Leads, Right Angle, Pitch 0.3 mm, Mated Height 1.15 mm, SMT)
pins: 1, 2, 3, 4, 5, 6, 7, 8, 9, 10, 11, 12, 13, 14, 15, 16, 17, 18, 19, 20, 21, 22, 23, 24, 25, 26, 27, 28, 29, 30, 31, 32, 33, 34, 35, 36, 37, 38, 39, 40, 41, MP1, MP2

## 502598-4593
designator J?
0.3 mm Pitch Easy-On(TM) BackFlip(TM) Type FPC Connector, 1.15 mm Mated Height, Right Angle, SMT, Dual Contact, 45 Circuits, -40 to 85 degC, ELV and RoHS Compliant, Tape and Reel; Manufacturer: Molex; PartNumber: 502598-4593; Circuits (Loaded): 45; Current (Max per Contact): 0.2A; Durability (mating cycles max): 10; Entry Angle: 90degrees Angle; Mated Height: 1.15mm; Material - Metal: Copper Alloy, Phosphor Bronze; Material - Plating Mating: Gold; Material - Plating Termination: Gold, Tin; PCB Locator: No; PCB Retention: Yes; Pitch - Mating Interface: 0.30mm; Voltage (Max): 50V AC (RMS)/DC; PackageVersion: Rev. B, 08/2013; PackageReference: 502598-4593; PackageDescription: 45-Lead FPC Connector, Pitch 0.3 mm; Contact Position: Dual; Number of Rows: 1; Orientation: Right Angle; Packing: Tape and Reel; Polarized to PCB: Yes; RoHS: TRUE; Stackable: No; Mounting Technology: Surface Mount; ComponentLink1Description: Manufacturer URL; ComponentLink1URL: http://www.molex.com/molex/index.jsp; ComponentLink2Description: Datasheet; ComponentLink2URL: http://www.molex.com/webdocs/datasheets/pdf/en-us/5025984593_FFC_FPC_CONNECTORS.pdf; ComponentLink3Description: Package Specification; ComponentLink3URL: http://www.molex.com/pdm_docs/sd/5025984593_sd.pdf
footprint MOLX-502598-4593 (FPC Connector, 45-Leads, Right Angle, Pitch 0.3 mm, Mated Height 1.15 mm, SMT)
pins: 1, 2, 3, 4, 5, 6, 7, 8, 9, 10, 11, 12, 13, 14, 15, 16, 17, 18, 19, 20, 21, 22, 23, 24, 25, 26, 27, 28, 29, 30, 31, 32, 33, 34, 35, 36, 37, 38, 39, 40, 41, 42, 43, 44, 45, MP1, MP2

## 502598-5193
designator J?
0.3 mm Pitch Easy-On(TM) BackFlip(TM) Type FPC Connector, 1.15 mm Mated Height, Right Angle, SMT, Dual Contact, 51 Circuits, -40 to 85 degC, ELV and RoHS Compliant, Tape and Reel; Manufacturer: Molex; PartNumber: 502598-5193; Circuits (Loaded): 51; Current (Max per Contact): 0.2A; Durability (mating cycles max): 10; Entry Angle: 90degrees Angle; Mated Height: 1.15mm; Material - Metal: Copper Alloy, Phosphor Bronze; Material - Plating Mating: Gold; Material - Plating Termination: Gold, Tin; PCB Locator: No; PCB Retention: Yes; Pitch - Mating Interface: 0.30mm; Voltage (Max): 50V AC (RMS)/DC; PackageVersion: Rev. B, 08/2013; PackageReference: 502598-5193; PackageDescription: 51-Lead FPC Connector, Pitch 0.3 mm; Contact Position: Dual; Number of Rows: 1; Orientation: Right Angle; Packing: Tape and Reel; Polarized to PCB: Yes; RoHS: TRUE; Stackable: No; Mounting Technology: Surface Mount; ComponentLink1Description: Manufacturer URL; ComponentLink1URL: http://www.molex.com/molex/index.jsp; ComponentLink2Description: Datasheet; ComponentLink2URL: http://www.molex.com/webdocs/datasheets/pdf/en-us/5025985193_FFC_FPC_CONNECTORS.pdf; ComponentLink3Description: Package Specification; ComponentLink3URL: http://www.molex.com/pdm_docs/sd/5025985193_sd.pdf
footprint MOLX-502598-5193 (FPC Connector, 51-Leads, Right Angle, Pitch 0.3 mm, Mated Height 1.15 mm, SMT)
pins: 1, 2, 3, 4, 5, 6, 7, 8, 9, 10, 11, 12, 13, 14, 15, 16, 17, 18, 19, 20, 21, 22, 23, 24, 25, 26, 27, 28, 29, 30, 31, 32, 33, 34, 35, 36, 37, 38, 39, 40, 41, 42, 43, 44, 45, 46, 47, 48, 49, 50, 51, MP1, MP2

## 502790-3091
designator J?
0.5 mm Pitch Easy-On(TM) Front Flip Type FPC Connector, 2.5 mm Mated Height, Right Angle, ZIF, SMT, Bottom Contact, 30 Circuits, -20 to 85 degC, ELV and RoHS Compliant, Tape and Reel; Manufacturer: Molex; PartNumber: 502790-3091; Circuits (Loaded): 30; Current (Max per Contact): 0.5A; Entry Angle: 90degrees Angle; Mated Height: 2.50mm; Material - Metal: Phosphor Bronze; Material - Plating Mating: Gold; PCB Retention: Yes; Pitch - Mating Interface: 0.50mm; Stackable: No; Voltage (Max): 50V; PackageVersion: Rev. C, 05/2009; PackageReference: 502790-3091; PackageDescription: 30-Lead FPC Connector, Pitch 0.5 mm; Contact Position: Bottom; Material - Plating Termination: Gold; Number of Rows: 1; Orientation: Right Angle; Packing: Tape and Reel; Polarized to PCB: Yes; RoHS: TRUE; Mounting Technology: Surface Mount; ComponentLink1Description: Manufacturer URL; ComponentLink1URL: http://www.molex.com/molex/index.jsp; ComponentLink2Description: Datasheet; ComponentLink2URL: http://www.molex.com/webdocs/datasheets/pdf/en-us/5027903091_FFC_FPC_CONNECTORS.pdf; ComponentLink3Description: Package Specification; ComponentLink3URL: http://www.molex.com/pdm_docs/sd/5027903091_sd.pdf
footprint MOLX-502790-3091 (FPC Connector, 30-Leads, Right Angle, Pitch 0.5 mm, Mated Height 2.5 mm, SMT)
pins: 1, 2, 3, 4, 5, 6, 7, 8, 9, 10, 11, 12, 13, 14, 15, 16, 17, 18, 19, 20, 21, 22, 23, 24, 25, 26, 27, 28, 29, 30, MP1, MP2

## 502790-4091
designator J?
0.5 mm Pitch Easy-On(TM) Front Flip Type FPC Connector, 2.5 mm Mated Height, Right Angle, ZIF, SMT, Bottom Contact, 40 Circuits, -20 to 85 degC, ELV and RoHS Compliant, Tape and Reel; Manufacturer: Molex; PartNumber: 502790-4091; Circuits (Loaded): 40; Current (Max per Contact): 0.5A; Entry Angle: 90degrees Angle; Mated Height: 2.50mm; Material - Metal: Phosphor Bronze; Material - Plating Mating: Gold; PCB Retention: Yes; Pitch - Mating Interface: 0.50mm; Stackable: No; Voltage (Max): 50V; PackageVersion: Rev. C, 05/2009; PackageReference: 502790-4091; PackageDescription: 40-Lead FPC Connector, Pitch 0.5 mm; Contact Position: Bottom; Material - Plating Termination: Gold; Number of Rows: 1; Orientation: Right Angle; Packing: Tape and Reel; Polarized to PCB: Yes; RoHS: TRUE; Mounting Technology: Surface Mount; ComponentLink1Description: Manufacturer URL; ComponentLink1URL: http://www.molex.com/molex/index.jsp; ComponentLink2Description: Datasheet; ComponentLink2URL: http://www.molex.com/webdocs/datasheets/pdf/en-us/5027904091_FFC_FPC_CONNECTORS.pdf; ComponentLink3Description: Package Specification; ComponentLink3URL: http://www.molex.com/pdm_docs/sd/5027904091_sd.pdf
footprint MOLX-502790-4091 (FPC Connector, 40-Leads, Right Angle, Pitch 0.5 mm, Mated Height 2.5 mm, SMT)
pins: 1, 2, 3, 4, 5, 6, 7, 8, 9, 10, 11, 12, 13, 14, 15, 16, 17, 18, 19, 20, 21, 22, 23, 24, 25, 26, 27, 28, 29, 30, 31, 32, 33, 34, 35, 36, 37, 38, 39, 40, MP1, MP2

## 502790-5091
designator J?
0.5 mm Pitch Easy-On(TM) Front Flip Type FPC Connector, 2.5 mm Mated Height, Right Angle, ZIF, SMT, Bottom Contact, 50 Circuits, -20 to 85 degC, ELV and RoHS Compliant, Tape and Reel; Manufacturer: Molex; PartNumber: 502790-5091; Circuits (Loaded): 50; Current (Max per Contact): 0.5A; Entry Angle: 90degrees Angle; Mated Height: 2.50mm; Material - Metal: Phosphor Bronze; Material - Plating Mating: Gold; PCB Retention: Yes; Pitch - Mating Interface: 0.50mm; Stackable: No; Voltage (Max): 50V; PackageVersion: Rev. C, 05/2009; PackageReference: 502790-5091; PackageDescription: 50-Lead FPC Connector, Pitch 0.5 mm; Contact Position: Bottom; Material - Plating Termination: Gold; Number of Rows: 1; Orientation: Right Angle; Packing: Tape and Reel; Polarized to PCB: Yes; RoHS: TRUE; Mounting Technology: Surface Mount; ComponentLink1Description: Manufacturer URL; ComponentLink1URL: http://www.molex.com/molex/index.jsp; ComponentLink2Description: Datasheet; ComponentLink2URL: http://www.molex.com/webdocs/datasheets/pdf/en-us/5027905091_FFC_FPC_CONNECTORS.pdf; ComponentLink3Description: Package Specification; ComponentLink3URL: http://www.molex.com/pdm_docs/sd/5027905091_sd.pdf
footprint MOLX-502790-5091 (FPC Connector, 50-Leads, Right Angle, Pitch 0.5 mm, Mated Height 2.5 mm, SMT)
pins: 1, 2, 3, 4, 5, 6, 7, 8, 9, 10, 11, 12, 13, 14, 15, 16, 17, 18, 19, 20, 21, 22, 23, 24, 25, 26, 27, 28, 29, 30, 31, 32, 33, 34, 35, 36, 37, 38, 39, 40, 41, 42, 43, 44, 45, 46, 47, 48, 49, 50, MP1, MP2

## 502790-6091
designator J?
0.5 mm Pitch Easy-On(TM) Front Flip Type FPC Connector, 2.5 mm Mated Height, Right Angle, ZIF, SMT, Bottom Contact, 60 Circuits, -20 to 85 degC, ELV and RoHS Compliant, Tape and Reel; Manufacturer: Molex; PartNumber: 502790-6091; Circuits (Loaded): 60; Current (Max per Contact): 0.5A; Entry Angle: 90degrees Angle; Mated Height: 2.50mm; Material - Metal: Phosphor Bronze; Material - Plating Mating: Gold; PCB Retention: Yes; Pitch - Mating Interface: 0.50mm; Stackable: No; Voltage (Max): 50V; PackageVersion: Rev. C, 05/2009; PackageReference: 502790-6091; PackageDescription: 60-Lead FPC Connector, Pitch 0.5 mm; Contact Position: Bottom; Material - Plating Termination: Gold; Number of Rows: 1; Orientation: Right Angle; Packing: Tape and Reel; Polarized to PCB: Yes; RoHS: TRUE; Mounting Technology: Surface Mount; ComponentLink1Description: Manufacturer URL; ComponentLink1URL: http://www.molex.com/molex/index.jsp; ComponentLink2Description: Datasheet; ComponentLink2URL: http://www.molex.com/webdocs/datasheets/pdf/en-us/5027906091_FFC_FPC_CONNECTORS.pdf; ComponentLink3Description: Package Specification; ComponentLink3URL: http://www.molex.com/pdm_docs/sd/5027906091_sd.pdf
footprint MOLX-502790-6091 (FPC Connector, 60-Leads, Right Angle, Pitch 0.5 mm, Mated Height 2.5 mm, SMT)
pins: 1, 2, 3, 4, 5, 6, 7, 8, 9, 10, 11, 12, 13, 14, 15, 16, 17, 18, 19, 20, 21, 22, 23, 24, 25, 26, 27, 28, 29, 30, 31, 32, 33, 34, 35, 36, 37, 38, 39, 40, 41, 42, 43, 44, 45, 46, 47, 48, 49, 50, 51, 52, 53, 54, 55, 56, 57, 58, 59, 60, MP1, MP2

## 502790-6491
designator J?
0.5 mm Pitch Easy-On(TM) Front Flip Type FPC Connector, 2.5 mm Mated Height, Right Angle, ZIF, SMT, Bottom Contact, 64 Circuits, -20 to 85 degC, ELV and RoHS Compliant, Tape and Reel; Manufacturer: Molex; PartNumber: 502790-6491; Circuits (Loaded): 64; Current (Max per Contact): 0.5A; Entry Angle: 90degrees Angle; Mated Height: 2.50mm; Material - Metal: Phosphor Bronze; Material - Plating Mating: Gold; PCB Retention: Yes; Pitch - Mating Interface: 0.50mm; Stackable: No; Voltage (Max): 50V; PackageVersion: Rev. C, 05/2009; PackageReference: 502790-6491; PackageDescription: 64-Lead FPC Connector, Pitch 0.5 mm; Contact Position: Bottom; Material - Plating Termination: Gold; Number of Rows: 1; Orientation: Right Angle; Packing: Tape and Reel; Polarized to PCB: Yes; RoHS: TRUE; Mounting Technology: Surface Mount; ComponentLink1Description: Manufacturer URL; ComponentLink1URL: http://www.molex.com/molex/index.jsp; ComponentLink2Description: Datasheet; ComponentLink2URL: http://www.molex.com/webdocs/datasheets/pdf/en-us/5027906491_FFC_FPC_CONNECTORS.pdf; ComponentLink3Description: Package Specification; ComponentLink3URL: http://www.molex.com/pdm_docs/sd/5027906491_sd.pdf
footprint MOLX-502790-6491 (FPC Connector, 64-Leads, Right Angle, Pitch 0.5 mm, Mated Height 2.5 mm, SMT)
pins: 1, 2, 3, 4, 5, 6, 7, 8, 9, 10, 11, 12, 13, 14, 15, 16, 17, 18, 19, 20, 21, 22, 23, 24, 25, 26, 27, 28, 29, 30, 31, 32, 33, 34, 35, 36, 37, 38, 39, 40, 41, 42, 43, 44, 45, 46, 47, 48, 49, 50, 51, 52, 53, 54, 55, 56, 57, 58, 59, 60, 61, 62, 63, 64, MP1, MP2

## 502790-8091
designator J?
0.5 mm Pitch Easy-On(TM) Front Flip Type FPC Connector, 2.5 mm Mated Height, Right Angle, ZIF, SMT, Bottom Contact, 80 Circuits, -20 to 85 degC, ELV and RoHS Compliant, Tape and Reel; Manufacturer: Molex; PartNumber: 502790-8091; Circuits (Loaded): 80; Current (Max per Contact): 0.5A; Entry Angle: 90degrees Angle; Mated Height: 2.50mm; Material - Metal: Phosphor Bronze; Material - Plating Mating: Gold; PCB Retention: Yes; Pitch - Mating Interface: 0.50mm; Stackable: No; Voltage (Max): 50V; PackageVersion: Rev. C, 05/2009; PackageReference: 502790-8091; PackageDescription: 80-Lead FPC Connector, Pitch 0.5 mm; Contact Position: Bottom; Material - Plating Termination: Gold; Number of Rows: 1; Orientation: Right Angle; Packing: Tape and Reel; Polarized to PCB: Yes; RoHS: TRUE; Mounting Technology: Surface Mount; ComponentLink1Description: Manufacturer URL; ComponentLink1URL: http://www.molex.com/molex/index.jsp; ComponentLink2Description: Datasheet; ComponentLink2URL: http://www.molex.com/webdocs/datasheets/pdf/en-us/5027908091_FFC_FPC_CONNECTORS.pdf; ComponentLink3Description: Package Specification; ComponentLink3URL: http://www.molex.com/pdm_docs/sd/5027908091_sd.pdf
footprint MOLX-502790-8091 (FPC Connector, 80-Leads, Right Angle, Pitch 0.5 mm, Mated Height 2.5 mm, SMT)
pins: 1, 2, 3, 4, 5, 6, 7, 8, 9, 10, 11, 12, 13, 14, 15, 16, 17, 18, 19, 20, 21, 22, 23, 24, 25, 26, 27, 28, 29, 30, 31, 32, 33, 34, 35, 36, 37, 38, 39, 40, 41, 42, 43, 44, 45, 46, 47, 48, 49, 50, 51, 52, 53, 54, 55, 56, 57, 58, 59, 60, 61, 62, 63, 64, 65, 66, 67, 68, 69, 70, 71, 72, 73, 74, 75, 76, 77, 78, 79, 80, MP1, MP2

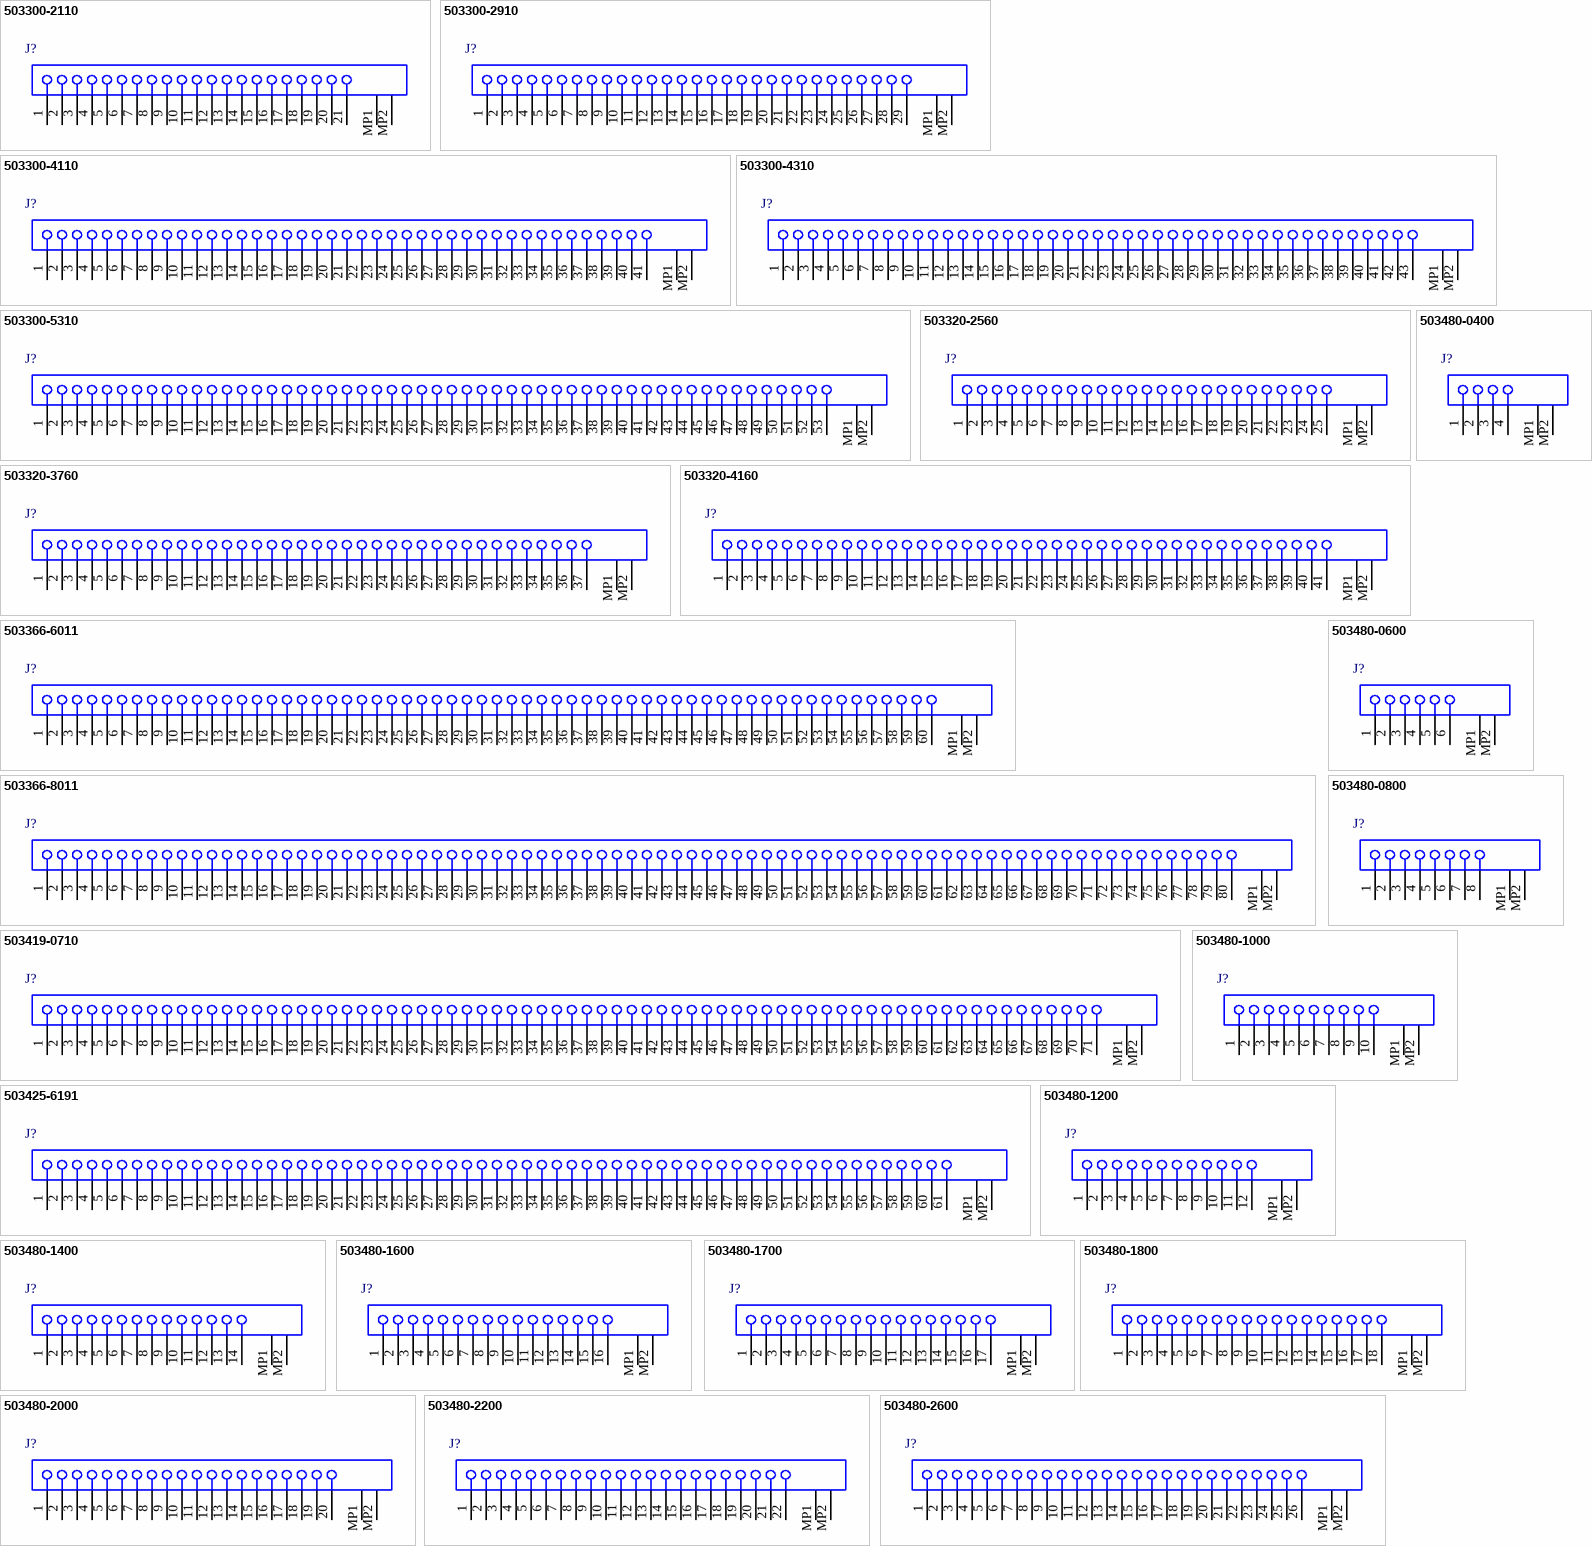
[diagram p20: symbols 503300-2110 to 503480-2600]

## 503300-2110
designator J?
0.25 mm Pitch Easy-On(TM) Front-Flip Type FPC Connector, 1.2 mm Mated Height, Right Angle, SMT, Top Contact, 21 Circuits, -40 to 80 degC, ELV and RoHS Compliant, Tray; Manufacturer: Molex; PartNumber: 503300-2110; Circuits (Loaded): 21; Current (Max per Contact): 0.2A; Durability (mating cycles max): 10; Entry Angle: 90degrees Angle; Mated Height: 1.20mm; Material - Metal: Phosphor Bronze; Material - Plating Mating: Gold over Nickel; PCB Retention: None; Pitch - Mating Interface: 0.25mm; Polarized to PCB: No; Voltage (Max): 50V AC (RMS)/DC; PackageVersion: Rev. C, 02/2014; PackageReference: 503300-2110; PackageDescription: 21-Lead FPC Connector, Pitch 0.25 mm; Contact Position: Top; Number of Rows: 1; Orientation: Right Angle; Packing: Tray; RoHS: TRUE; Stackable: No; Mounting Technology: Surface Mount; ComponentLink1Description: Manufacturer URL; ComponentLink1URL: http://www.molex.com/molex/index.jsp; ComponentLink2Description: Datasheet; ComponentLink2URL: http://www.molex.com/webdocs/datasheets/pdf/en-us/5033002110_FFC_FPC_CONNECTORS.pdf; ComponentLink3Description: Package Specification; ComponentLink3URL: http://www.molex.com/pdm_docs/sd/5033002110_sd.pdf
footprint MOLX-503300-2110 (FPC Connector, 21-Leads, Right Angle, Pitch 0.25 mm, Mated Height 1.2 mm, SMT)
pins: 1, 2, 3, 4, 5, 6, 7, 8, 9, 10, 11, 12, 13, 14, 15, 16, 17, 18, 19, 20, 21, MP1, MP2

## 503300-2910
designator J?
0.25 mm Pitch Easy-On(TM) Front-Flip Type FPC Connector, 1.2 mm Mated Height, Right Angle, SMT, Top Contact, 29 Circuits, -40 to 80 degC, ELV and RoHS Compliant, Tray; Manufacturer: Molex; PartNumber: 503300-2910; Circuits (Loaded): 29; Current (Max per Contact): 0.2A; Durability (mating cycles max): 10; Entry Angle: 90degrees Angle; Mated Height: 1.20mm; Material - Metal: Phosphor Bronze; Material - Plating Mating: Gold over Nickel; PCB Retention: None; Pitch - Mating Interface: 0.25mm; Polarized to PCB: No; Voltage (Max): 50V AC (RMS)/DC; PackageVersion: Rev. C, 02/2014; PackageReference: 503300-2910; PackageDescription: 29-Lead FPC Connector, Pitch 0.25 mm; Contact Position: Top; Number of Rows: 1; Orientation: Right Angle; Packing: Tray; RoHS: TRUE; Stackable: No; Mounting Technology: Surface Mount; ComponentLink1Description: Manufacturer URL; ComponentLink1URL: http://www.molex.com/molex/index.jsp; ComponentLink2Description: Datasheet; ComponentLink2URL: http://www.molex.com/webdocs/datasheets/pdf/en-us/5033002910_FFC_FPC_CONNECTORS.pdf; ComponentLink3Description: Package Specification; ComponentLink3URL: http://www.molex.com/pdm_docs/sd/5033002910_sd.pdf
footprint MOLX-503300-2910 (FPC Connector, 29-Leads, Right Angle, Pitch 0.25 mm, Mated Height 1.2 mm, SMT)
pins: 1, 2, 3, 4, 5, 6, 7, 8, 9, 10, 11, 12, 13, 14, 15, 16, 17, 18, 19, 20, 21, 22, 23, 24, 25, 26, 27, 28, 29, MP1, MP2